# Altium schematic symbol library Sensor_Distance.SchLib: 2 symbols
Pins are listed as number, name and electrical type; pins without a type are passive.

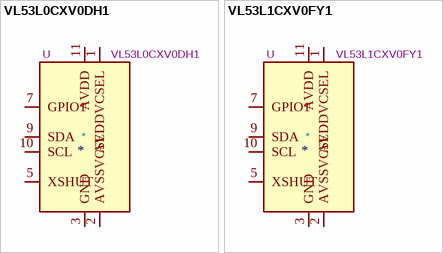
[diagram p0: symbols VL53L0CXV0DH1 to VL53L1CXV0FY1]

## VL53L0CXV0DH1
designator *  value VL53L0CXV0DH1  Reference: U
ki_keywords: VL53L0x ToF; ki_description: 2m distance ranging ToF sensor; ki_fp_filters: ST*VL53L1x*; Footprint: Sensor_Distance:ST_VL53L1x; Datasheet: https://www.st.com/resource/en/datasheet/vl53l0x.pdf
pins: 1 AVDDVCSEL, 2 AVSSVCSEL, 3 GND, 4 GND hidden, 5 XSHUT, 6 GND hidden, 7 GPIO1, 8 DNC hidden, 9 SDA, 10 SCL, 11 AVDD, 12 GND hidden

## VL53L1CXV0FY1
designator *  value VL53L1CXV0FY1  Reference: U
ki_keywords: VL53L1x ToF; ki_description: 4m distance ranging ToF sensor; ki_fp_filters: ST*VL53L1x*; Footprint: Sensor_Distance:ST_VL53L1x; Datasheet: https://www.st.com/resource/en/datasheet/vl53l1x.pdf
pins: 1 AVDDVCSEL, 2 AVSSVCSEL, 3 GND, 4 GND hidden, 5 XSHUT, 6 GND hidden, 7 GPIO1, 8 DNC hidden, 9 SDA, 10 SCL, 11 AVDD, 12 GND hidden